# Altium schematic symbol library RES 255k 1_8W - 1%.SchLib: 1 symbol
Pins are listed as number, name and electrical type; pins without a type are passive.

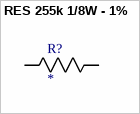
[diagram p0: symbol RES 255k 1/8W - 1%]

## RES 255k 1/8W - 1%
designator R?
RES 255k 1/8W - 1% 0603
footprint 0603 (Chip Resistor, 2-Leads, Body 1.60x0.80mm, IPC High Density)
pins: 1 R1, 2 R2